# EAGLE library part 10118194-MICRO-USB (library nebrius)
Surface mount micro USB connector
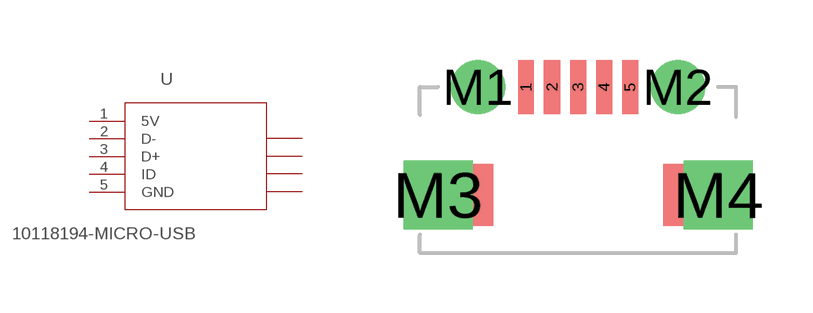
[diagram p0: symbol with the pads of 10118194-MICRO-USB; footprint 10118194-MICRO-USB]

Designator prefix U

## 10118194-MICRO-USB  [10118194-MICRO-USB]
1  5V
2  D-
3  D+
4  ID
5  GND
M1  M1  nc
M2  M2  nc
M3  M3  nc
M4  M4  nc

## Footprint 10118194-MICRO-USB (pad centres in mm)
Surface mount micro USB connector
smd 0.4 x 1.35: 1 -1.3,2.7; 2 -0.65,2.7; 3 0,2.7; 4 0.65,2.7; 5 1.3,2.7
drill 0.85 pad 1.35: M1 -2.5,2.7; M2 2.5,2.7
drill 1.15 pad 1.55 square: M3 -3.5,0; M4 3.5,0